# Altium schematic symbol library TS3USB221RSER.Schlib: 1 symbol
Pins are listed as number, name and electrical type; pins without a type are passive.

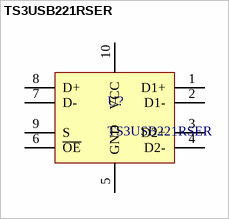
[diagram p0: symbol TS3USB221RSER]

## TS3USB221RSER
designator U?
USB Switch IC 2 Channel 10-UQFN (2.0x1.5)
pins: 1 D1+, 2 D1-, 3 D2+, 4 D2-, 5 GND, 6 ~{OE}, 7 D-, 8 D+, 9 S, 10 VCC